# Altium footprint library MODEM_R2_2.PcbLib: 23 footprints (part 2 of 2)
Each footprint in its own frame and in the unit in brackets; x right, y up, seen from the top. Pads: shape width x height; smd on the part's side, far side on the other; paste and mask are expansions set on the pad; w line width, h text height; cw(c..) or ccw(c..) is an arc to the next point about the centre after c.
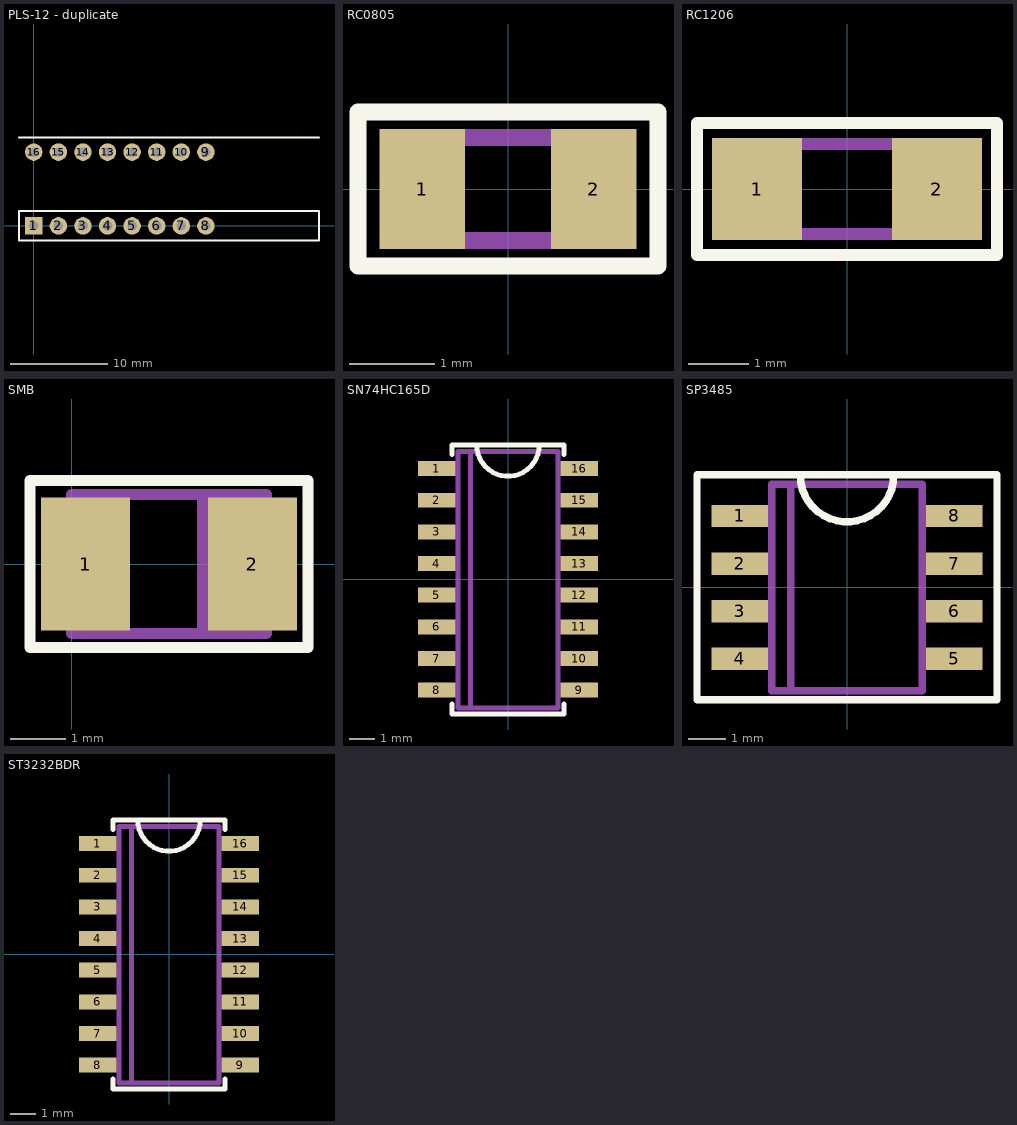
[diagram p1: the footprints below, top view; thin cyan lines are the x and y axes]

## PLS-12 - duplicate [mm]
height 10
pads (16):
  rect 1.8x1.8 hole 1: 1(0,0)
  round 1.8 hole 1: 2(2.54,0) 3(5.08,0) 4(7.62,0) 5(10.16,0) 6(12.7,0) 7(15.24,0) 8(17.78,0) 9(17.78,7.62) 10(15.24,7.62) 11(12.7,7.62) 12(10.16,7.62) 13(7.62,7.62) 14(5.08,7.62) 15(2.54,7.62) 16(0,7.62)
Top Overlay:
  lines w0.2: -1.524,9.144 29.464,9.144 ; -1.524,-1.524 -1.524,1.524 29.464,1.524 29.464,-1.524 -1.524,-1.524

## RC0805 [mm]
height 0.5
pads (2):
  rect 1x1.4 smd: 1(-1,0) 2(1,0)
Top Overlay:
  lines w0.2: -1.75,-0.9 1.75,-0.9 1.75,0.9 -1.75,0.9 -1.75,-0.9
Mechanical 1:
  lines w0.2: -1,-0.6 -1,0.6 1,0.6 1,-0.6 0.6,-0.6 -0.9,-0.6 -1,-0.6

## RC1206 [mm]
height 0.8
pads (2):
  rect 1.5x1.7 smd: 1(-1.5,0) 2(1.5,0)
Top Overlay:
  lines w0.2: -2.5,-1.1 2.5,-1.1 2.5,1.1 -2.5,1.1 -2.5,-1.1
Mechanical 1:
  lines w0.2: -1.5,-0.75 1.5,-0.75 1.5,0.75 -1.5,0.75 -1.5,-0.75

## SMB [mm]
height 2.5
pads (2):
  rect 1.6x2.4 smd: 1(0.25,0) 2(3.25,0)
Top Overlay:
  lines w0.2: -0.75,-1.5 4.25,-1.5 4.25,1.5 -0.75,1.5 -0.75,-1.5
Mechanical 1:
  rectangle: 2.25,-1.25 3,1.25
  lines w0.2: 0,-1.25 0,1.25 3.5,1.25 3.5,-1.25 0,-1.25

## SN74HC165D [mm]
height 1.5
pads (16):
  rect 1.5x0.6 smd: 1(-2.857,4.445) 2(-2.857,3.175) 3(-2.857,1.905) 4(-2.857,0.635) 5(-2.857,-0.635) 6(-2.857,-1.905) 7(-2.857,-3.175) 8(-2.857,-4.445) 9(2.857,-4.445) 10(2.857,-3.175) 11(2.857,-1.905) 12(2.857,-0.635) 13(2.857,0.635) 14(2.857,1.905) 15(2.857,3.175) 16(2.857,4.445)
Top Overlay:
  lines w0.2: -2.25,-5 -2.25,-5.4 2.25,-5.4 2.25,-5 ; -2.25,5 -2.25,5.385 2.25,5.385 2.25,5 ; -1.25,5.385 ccw(c0,5.385) 1.25,5.385
Mechanical 1:
  lines w0.2: -1.5,-5.15 -1.5,5.135 ; -2,-5.15 -2,5.135 2,5.135 2,-5.15 -2,-5.15

## SP3485 [mm]
height 1.5
pads (8):
  rect 1.5x0.6 smd: 1(-2.857,1.905) 2(-2.857,0.635) 3(-2.857,-0.635) 4(-2.857,-1.905) 5(2.857,-1.905) 6(2.857,-0.635) 7(2.857,0.635) 8(2.857,1.905)
Top Overlay:
  lines w0.2: -1.25,3 ccw(c0,3) 1.25,3 ; -4,-3 4,-3 4,3 -4,3 -4,-3
Mechanical 1:
  lines w0.2: -1.5,-2.75 -1.5,2.75 ; -2,-2.75 2,-2.75 2,2.75 -2,2.75 -2,-2.75

## ST3232BDR [mm]
height 1.5
pads (16):
  rect 1.5x0.6 smd: 1(-2.857,4.445) 2(-2.857,3.175) 3(-2.857,1.905) 4(-2.857,0.635) 5(-2.857,-0.635) 6(-2.857,-1.905) 7(-2.857,-3.175) 8(-2.857,-4.445) 9(2.857,-4.445) 10(2.857,-3.175) 11(2.857,-1.905) 12(2.857,-0.635) 13(2.857,0.635) 14(2.857,1.905) 15(2.857,3.175) 16(2.857,4.445)
Top Overlay:
  lines w0.2: -2.25,-5 -2.25,-5.4 2.25,-5.4 2.25,-5 ; -2.25,5 -2.25,5.385 2.25,5.385 2.25,5 ; -1.25,5.385 ccw(c0,5.385) 1.25,5.385
Mechanical 1:
  lines w0.2: -1.5,-5.15 -1.5,5.135 ; -2,-5.15 2,-5.15 2,5.135 -2,5.135 -2,-5.15